# EAGLE library part OLED_DENSITRON (library HedgehogLib)
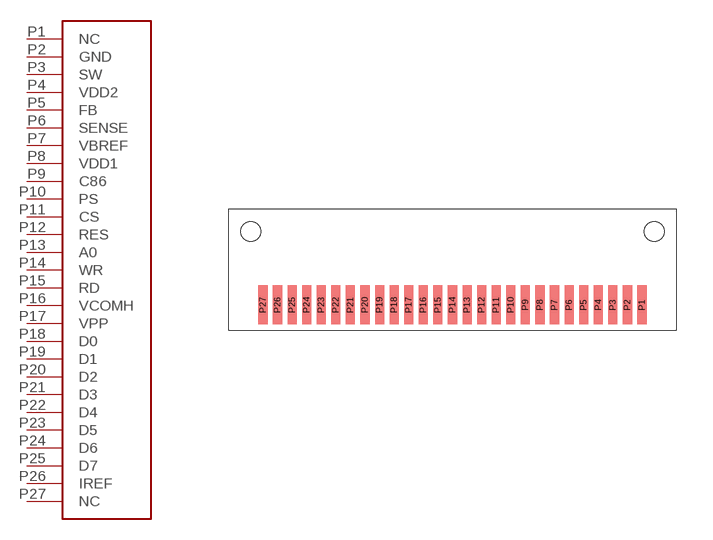
[diagram p1: symbol with the pads of CON_DD-12864WE-1A; footprint CON_DD-12864WE-1A]

Designator prefix -

## OLED_DENSITRON  [CON_DD-12864WE-1A]
P1  NC
P2  GND  pwr
P3  SW
P4  VDD2  pwr
P5  FB
P6  SENSE
P7  VBREF
P8  VDD1  pwr
P9  C86
P10  PS
P11  CS
P12  RES
P13  A0
P14  WR
P15  RD
P16  VCOMH
P17  VPP
P18  D0
P19  D1
P20  D2
P21  D3
P22  D4
P23  D5
P24  D6
P25  D7
P26  IREF
P27  NC

## Footprint CON_DD-12864WE-1A (pad centres in mm)
smd 0.375 x 1.6: P1 7.8,0; P2 7.2,0; P3 6.6,0; P4 6,0; P5 5.4,0; P6 4.8,0; P7 4.2,0; P8 3.6,0; P9 3,0; P10 2.4,0; P11 1.8,0; P12 1.2,0; P13 0.6,0; P14 0,0; P15 -0.6,0; P16 -1.2,0; P17 -1.8,0; P18 -2.4,0; P19 -3,0; P20 -3.6,0; P21 -4.2,0; P22 -4.8,0; P23 -5.4,0; P24 -6,0; P25 -6.6,0; P26 -7.2,0; P27 -7.8,0
hole 0.8 at -8.3,3.025
hole 0.8 at 8.3,3.025